# EAGLE library part DROTEKL6234 (library Drotek L6234)
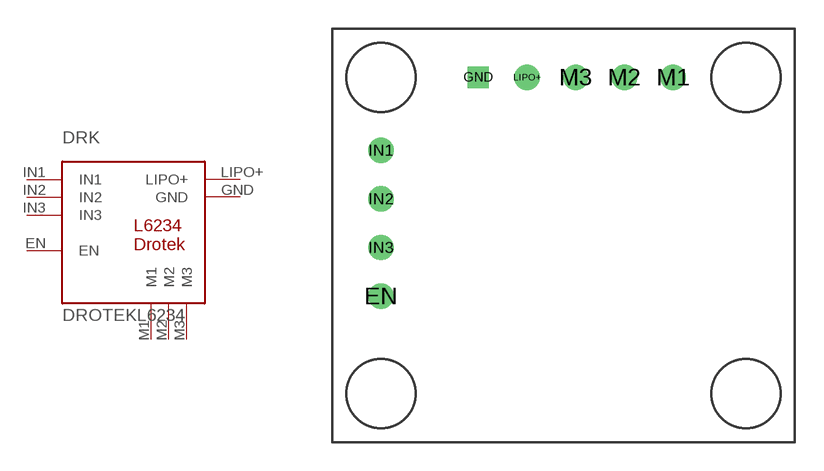
[diagram p0: symbol with the pads of DROTEKL6234; footprint DROTEKL6234]

Designator prefix DRK

## DROTEKL6234  [DROTEKL6234]
EN  EN
GND  GND  in
IN1  IN1  in
IN2  IN2  in
IN3  IN3  in
LIPO+  LIPO+  in
M1  M1  out
M2  M2  out
M3  M3  out

## Footprint DROTEKL6234 (pad centres in mm)
drill 0.813 pad 1.27: EN -8.89,-2.54; IN1 -8.89,5.08; IN2 -8.89,2.54; IN3 -8.89,0; LIPO+ -1.27,8.89; M1 6.35,8.89; M2 3.81,8.89; M3 1.27,8.89
drill 0.6 square: GND -3.81,8.89